# Altium footprint library Slave_Programmer.PcbLib: 12 footprints
Each footprint in its own frame and in the unit in brackets; x right, y up, seen from the top. Pads: shape width x height; smd on the part's side, far side on the other; paste and mask are expansions set on the pad; w line width, h text height; cw(c..) or ccw(c..) is an arc to the next point about the centre after c.
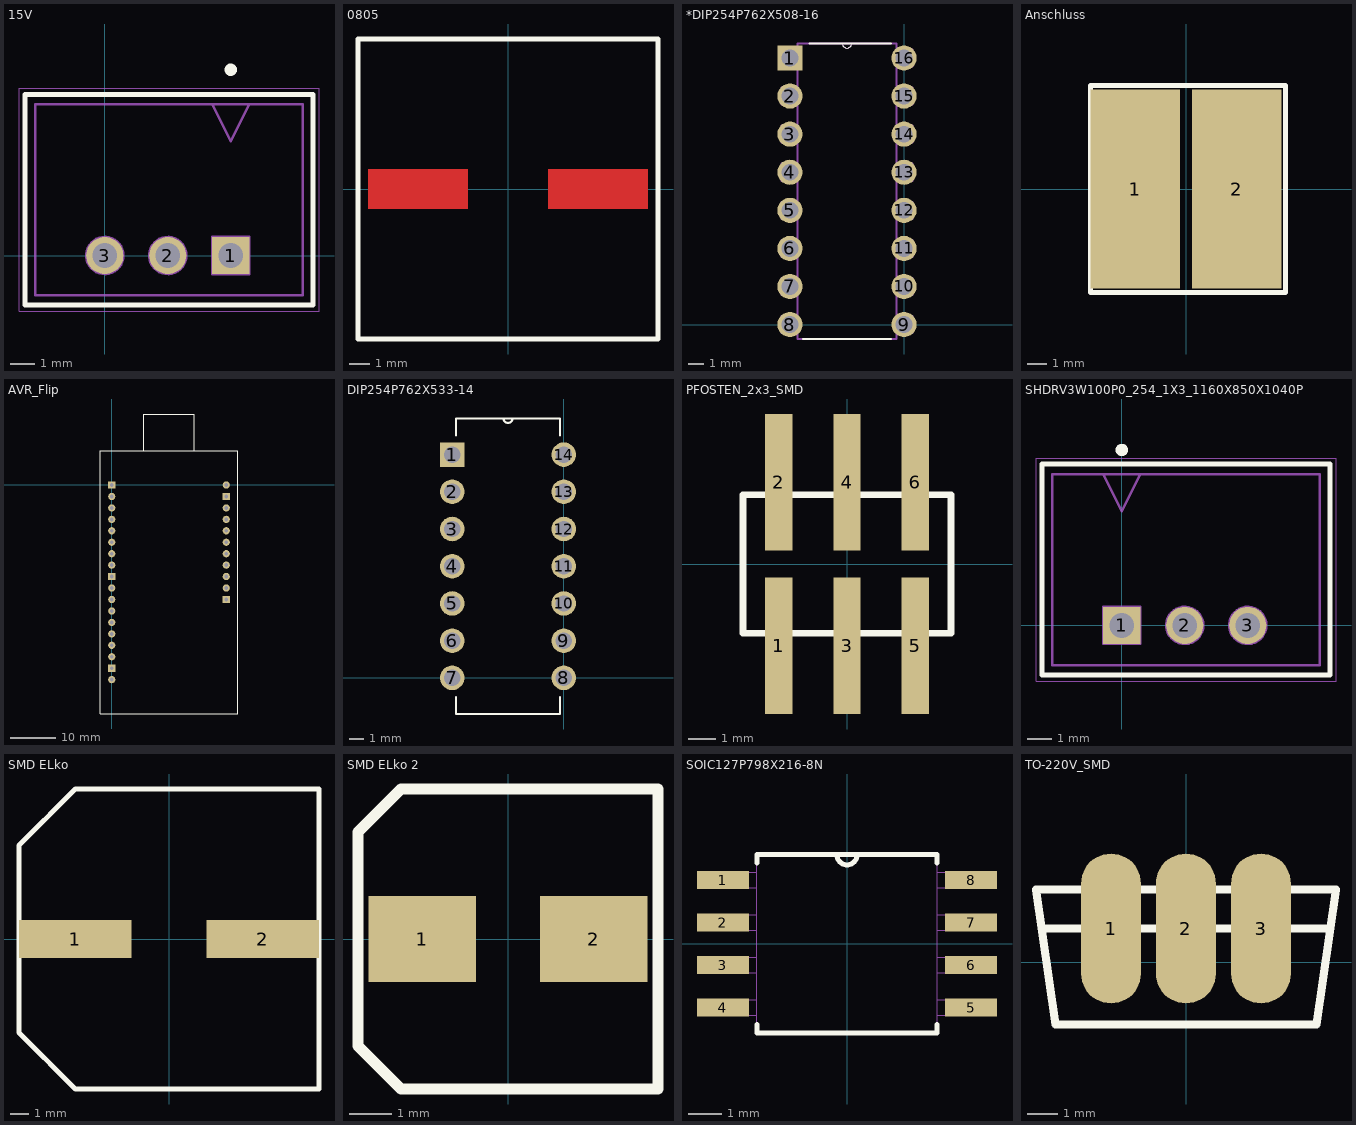
[diagram p0: the footprints below, top view; thin cyan lines are the x and y axes]

## 15V [mm]
height 10.4
pads (3):
  rect 1.5x1.5 / inner round 1.5 / far side rect 1.5x1.5 hole 1: 1(5.08,0)
  round 1.5 hole 1: 2(2.54,0) 3(0,0)
L26-Silk Screen Top (Multiple PADS layers...):
  circle w0.25: c5.08,7.493 r0.125
  lines w0.2: -3.21,-2 -3.21,6.5 8.39,6.5 8.39,-2 -3.21,-2
L15 (Multiple PADS layers...):
  circle w0.1: c0,0 r0.75
  circle w0.1: c2.54,0 r0.75
  lines w0.1: 4.33,6.1 5.08,4.6 5.83,6.1 ; -3.21,-2 -3.21,6.5 8.39,6.5 8.39,-2 -3.21,-2 ; -2.81,-1.6 -2.81,6.1 7.99,6.1 7.99,-1.6 -2.81,-1.6 ; 4.33,-0.75 4.33,0.75 5.83,0.75 5.83,-0.75 4.33,-0.75
L20:
  circle w0.05: c0,0 r0.35
  lines w0.05: -0.5,0 0.5,0 ; 0,-0.5 0,0.5 ; -3.46,-2.25 -3.46,6.75 8.64,6.75 8.64,-2.25 -3.46,-2.25
L25 (Multiple PADS layers...):
  lines w0.001: -3.21,-2 -3.21,6.5 8.39,6.5 8.39,-2 -3.21,-2

## 0805 [mil]
L0 (Multiple PADS layers...):
  rectangle: -275.59,-39.37 -78.74,39.37
  rectangle: 78.74,-39.37 275.59,39.37
L26-Silk Screen Top (Multiple PADS layers...):
  lines w10: -295.28,-295.28 -295.28,295.28 295.28,295.28 295.28,-255.91 295.28,-295.28 -295.28,-295.28

## *DIP254P762X508-16 [mil]
pads (16):
  rect 66x66 hole 44: 1(-300,700)
  round 66 hole 44: 2(-300,600) 3(-300,500) 4(-300,400) 5(-300,300) 6(-300,200) 7(-300,100) 8(-300,0) 9(0,0) 10(0,100) 11(0,200) 12(0,300) 13(0,400) 14(0,500) 15(0,600) 16(0,700)
L26-Silk Screen Top (Multiple PADS layers...):
  lines w0: -162,738 ccw(c-150,738) -138,738
  lines w6: -265,-38 -35,-38 ; -248,738 -162,738 -138,738 -35,738
L4:
  lines w0: -162,738 ccw(c-150,738) -138,738 cw(c-150,738) -162,738
  lines w6: -322,-22 -322,22 ; -322,-22 -280,-22 ; -322,-22 -322,22 ; -322,-22 -280,-22 ; -322,22 -280,22 ; -322,22 -280,22 ; -322,78 -322,122 ; -322,78 -280,78 ; -322,78 -322,122 ; -322,78 -280,78 ; -322,122 -280,122 ; -322,122 -280,122 ; -322,178 -322,222 ; -322,178 -280,178 ; -322,178 -322,222 ; -322,178 -280,178 ; -322,222 -280,222 ; -322,222 -280,222 ; -322,278 -322,322 ; -322,278 -280,278 ; -322,278 -322,322 ; -322,278 -280,278 ; -322,322 -280,322 ; -322,322 -280,322 ; -322,378 -322,422 ; -322,378 -280,378 ; -322,378 -322,422 ; -322,378 -280,378 ; -322,422 -280,422 ; -322,422 -280,422 ; -322,478 -322,522 ; -322,478 -280,478 ; -322,478 -322,522 ; -322,478 -280,478 ; -322,522 -280,522 ; -322,522 -280,522 ; -322,578 -322,622 ; -322,578 -280,578 ; -322,578 -322,622 ; -322,578 -280,578 ; -322,622 -280,622 ; -322,622 -280,622 ; -322,678 -322,722 ; -322,678 -280,678 ; -322,678 -322,722 ; -322,678 -280,678 ; -322,722 -280,722 ; -322,722 -280,722 ; -280,-38 -20,-38 ; -280,-38 -280,738 ; -280,-38 -20,-38 ; -280,-38 -280,738 ; -280,-22 -280,22 ; -280,-22 -280,22 ; -280,78 -280,122 ; -280,78 -280,122 ; -280,178 -280,222 ; -280,178 -280,222 ; -280,278 -280,322 ; -280,278 -280,322 ; -280,378 -280,422 ; -280,378 -280,422 ; -280,478 -280,522 ; -280,478 -280,522 ; -280,578 -280,622 ; -280,578 -280,622 ; -280,678 -280,722 ; -280,678 -280,722 ; -280,738 -162,738 ; -280,738 -162,738 ; -162,738 -138,738 ; -162,738 -138,738 ; -138,738 -20,738 ; -138,738 -20,738 ; -20,-38 -20,738 ; -20,-38 -20,738 ; -20,-22 -20,22 ; -20,-22 22,-22 ; -20,-22 -20,22 ; -20,-22 22,-22 ; -20,22 22,22 ; -20,22 22,22 ; -20,78 -20,122 ; -20,78 22,78 ; -20,78 -20,122 ; -20,78 22,78 ; -20,122 22,122 ; -20,122 22,122 ; -20,178 -20,222 ; -20,178 22,178 ; -20,178 -20,222 ; -20,178 22,178 ; -20,222 22,222 ; -20,222 22,222 ; -20,278 -20,322 ; -20,278 22,278 ; -20,278 -20,322 ; -20,278 22,278 ; -20,322 22,322 ; -20,322 22,322 ; -20,378 -20,422 ; -20,378 22,378 ; -20,378 -20,422 ; -20,378 22,378 ; -20,422 22,422 ; -20,422 22,422 ; -20,478 -20,522 ; -20,478 22,478 ; -20,478 -20,522 ; -20,478 22,478 ; -20,522 22,522 ; -20,522 22,522 ; -20,578 -20,622 ; -20,578 22,578 ; -20,578 -20,622 ; -20,578 22,578 ; -20,622 22,622 ; -20,622 22,622 ; -20,678 -20,722 ; -20,678 22,678 ; -20,678 -20,722 ; -20,678 22,678 ; -20,722 22,722 ; -20,722 22,722 ; 22,-22 22,22 ; 22,-22 22,22 ; 22,78 22,122 ; 22,78 22,122 ; 22,178 22,222 ; 22,178 22,222 ; 22,278 22,322 ; 22,278 22,322 ; 22,378 22,422 ; 22,378 22,422 ; 22,478 22,522 ; 22,478 22,522 ; 22,578 22,622 ; 22,578 22,622 ; 22,678 22,722 ; 22,678 22,722

## Anschluss [mm]
pads (2):
  rect 4.5x10 smd: 1(-2.54,0) 2(2.54,0)
L26-Silk Screen Top (Multiple PADS layers...):
  lines w0.254: -4.8,-5.2 -4.8,5.2 5,5.2 5,-5.2 -4.8,-5.2

## AVR_Flip [mm]
height 10
pads (29):
  round 1.6 hole 0.85: 0(25.4,0) 2(25.4,-5.08) 3(25.4,-7.62) 4(25.4,-10.16) 5(25.4,-12.7) 6(25.4,-15.24) 7(25.4,-17.78) 8(25.4,-20.32) 9(25.4,-22.86) 11(0,-43.18) 13(0,-38.1) 14(0,-35.56) 15(0,-33.02) 16(0,-30.48) 17(0,-27.94) 18(0,-25.4) 19(0,-22.86) 21(0,-17.78) 22(0,-15.24) 23(0,-12.7) 24(0,-10.16) 25(0,-7.62) 26(0,-5.08) 27(0,-2.54)
  rect 1.6x1.6 hole 0.85: 1(25.4,-2.54) 10(25.4,-25.4) 12(0,-40.64) 20(0,-20.32) 28(0,0)
L26-Silk Screen Top (Multiple PADS layers...):
  lines w0.254: 7.112,7.62 7.112,15.748 18.288,15.748 18.288,7.62 ; -2.54,-50.8 -2.54,7.62 27.94,7.62 27.94,-50.8 -2.54,-50.8

## DIP254P762X533-14 [mil]
pads (14):
  rect 66x66 / inner round 66 / far side rect 66x66 hole 44: 1(-300,600)
  round 66 hole 44: 2(-300,500) 3(-300,400) 4(-300,300) 5(-300,200) 6(-300,100) 7(-300,0) 8(0,0) 9(0,100) 10(0,200) 11(0,300) 12(0,400) 13(0,500) 14(0,600)
L26-Silk Screen Top (Multiple PADS layers...):
  lines w6: -290,-51 -290,-97 -10,-97 -10,-51 ; -290,652 -290,697 -162,697 ; -10,651 -10,697 -138,697 ; -162,697 ccw(c-150,697) -138,697 ; -162,697 -138,697

## PFOSTEN_2x3_SMD [mm]
pads (6):
  rect 1x5 smd mask+0.102: 1(-2.5,-3) 2(-2.5,3) 3(0,-3) 4(0,3) 5(2.5,-3) 6(2.5,3)
L26-Silk Screen Top (Multiple PADS layers...):
  lines w0.254: -3.81,-2.54 3.81,-2.54 3.81,2.54 -3.81,2.54 -3.81,-2.54

## SHDRV3W100P0_254_1X3_1160X850X1040P [mm]
height 10.4
pads (3):
  rect 1.5x1.5 / inner round 1.5 / far side rect 1.5x1.5 hole 1: 1(0,0)
  round 1.5 hole 1: 2(2.54,0) 3(5.08,0)
L26-Silk Screen Top (Multiple PADS layers...):
  circle w0.25: c0,7.075 r0.125
  lines w0.2: -3.21,-2 -3.21,6.5 8.39,6.5 8.39,-2 -3.21,-2
L15 (Multiple PADS layers...):
  circle w0.1: c5.08,0 r0.75
  circle w0.1: c2.54,0 r0.75
  lines w0.1: -0.75,6.1 0,4.6 0.75,6.1 ; -3.21,-2 -3.21,6.5 8.39,6.5 8.39,-2 -3.21,-2 ; -2.81,-1.6 -2.81,6.1 7.99,6.1 7.99,-1.6 -2.81,-1.6 ; -0.75,-0.75 0.75,-0.75 0.75,0.75 -0.75,0.75 -0.75,-0.75
L20:
  circle w0.05: c0,0 r0.35
  lines w0.05: -0.5,0 0.5,0 ; 0,-0.5 0,0.5 ; -3.46,-2.25 -3.46,6.75 8.64,6.75 8.64,-2.25 -3.46,-2.25
L25 (Multiple PADS layers...):
  lines w0.001: -3.21,-2 -3.21,6.5 8.39,6.5 8.39,-2 -3.21,-2

## SMD ELko [mm]
pads (2):
  rect 6x2 smd: 1(-5,0) 2(5,0)
L26-Silk Screen Top (Multiple PADS layers...):
  lines w0.254: -7.75,-5.25 -5,-8 8,-8 8,-6 8,8 -5,8 -7.75,5.25 ; -5.25,-7.75 -8,-5 -8,5 -5.25,7.75

## SMD ELko 2 [mm]
pads (2):
  rect 2.5x2 smd: 1(-2,0) 2(2,0)
L26-Silk Screen Top (Multiple PADS layers...):
  lines w0.254: -3.5,-2.5 -3.5,2.5 ; -3.5,-2.5 -2.5,-3.5 ; -3.5,-2.5 -2.5,-3.5 ; -3.5,2.5 -2.5,3.5 ; -3.5,2.5 -2.5,3.5 ; -2.5,-3.5 3.5,-3.5 3.5,3.5 -2.5,3.5

## SOIC127P798X216-8N [mil]
pads (8):
  rect 61x21 smd: 1(-146,75) 2(-146,25) 3(-146,-25) 4(-146,-75) 5(146,-75) 6(146,-25) 7(146,25) 8(146,75)
L26-Silk Screen Top (Multiple PADS layers...):
  lines w6: -106,-95 -106,-105 106,-105 106,-95 ; -106,95 -106,105 -12,105 ; 106,95 106,105 12,105 ; -12,105 ccw(c0,105) 12,105 ; -12,105 ccw(c0,105) 12,105 ; -12,105 12,105
L4:
  lines w0: -163,-84 -163,-66 ; -163,-84 -106,-84 ; -163,-84 -163,-66 ; -163,-84 -106,-84 ; -163,-66 -106,-66 ; -163,-66 -106,-66 ; -163,-34 -163,-16 ; -163,-34 -106,-34 ; -163,-34 -163,-16 ; -163,-34 -106,-34 ; -163,-16 -106,-16 ; -163,-16 -106,-16 ; -163,16 -163,34 ; -163,16 -106,16 ; -163,16 -163,34 ; -163,16 -106,16 ; -163,34 -106,34 ; -163,34 -106,34 ; -163,66 -163,84 ; -163,66 -106,66 ; -163,66 -163,84 ; -163,66 -106,66 ; -163,84 -106,84 ; -163,84 -106,84 ; -106,-105 106,-105 ; -106,-105 -106,105 ; -106,-105 106,-105 ; -106,-105 -106,105 ; -106,-84 -106,-66 ; -106,-84 -106,-66 ; -106,-34 -106,-16 ; -106,-34 -106,-16 ; -106,16 -106,34 ; -106,16 -106,34 ; -106,66 -106,84 ; -106,66 -106,84 ; -106,105 -12,105 ; -106,105 -12,105 ; -12,105 ccw(c0,105) 12,105 ; -12,105 ccw(c0,105) 12,105 ; -12,105 ccw(c0,105) 12,105 ; -12,105 ccw(c0,105) 12,105 ; -12,105 12,105 ; -12,105 12,105 ; 12,105 106,105 ; 12,105 106,105 ; 106,-105 106,105 ; 106,-105 106,105 ; 106,-84 106,-66 ; 106,-84 163,-84 ; 106,-84 106,-66 ; 106,-84 163,-84 ; 106,-66 163,-66 ; 106,-66 163,-66 ; 106,-34 106,-16 ; 106,-34 163,-34 ; 106,-34 106,-16 ; 106,-34 163,-34 ; 106,-16 163,-16 ; 106,-16 163,-16 ; 106,16 106,34 ; 106,16 163,16 ; 106,16 106,34 ; 106,16 163,16 ; 106,34 163,34 ; 106,34 163,34 ; 106,66 106,84 ; 106,66 163,66 ; 106,66 106,84 ; 106,66 163,66 ; 106,84 163,84 ; 106,84 163,84 ; 163,-84 163,-66 ; 163,-84 163,-66 ; 163,-34 163,-16 ; 163,-34 163,-16 ; 163,16 163,34 ; 163,16 163,34 ; 163,66 163,84 ; 163,66 163,84

## TO-220V_SMD [mm]
pads (3):
  oval 2x5 smd: 1(-2.5,1.125) 2(-0.002,1.125) 3(2.5,1.125)
L26-Silk Screen Top (Multiple PADS layers...):
  lines w0.254: -4.812,1.125 4.808,1.125 ; -5,2.425 0,2.425 5,2.425 4.35,-2.075 0,-2.075 -4.35,-2.075 -5,2.425